# Altium footprint library NPTC061KFXC-RC.PcbLib: 1 footprints
Each footprint in its own frame and in the unit in brackets; x right, y up, seen from the top. Pads: shape width x height; smd on the part's side, far side on the other; paste and mask are expansions set on the pad; w line width, h text height; cw(c..) or ccw(c..) is an arc to the next point about the centre after c.
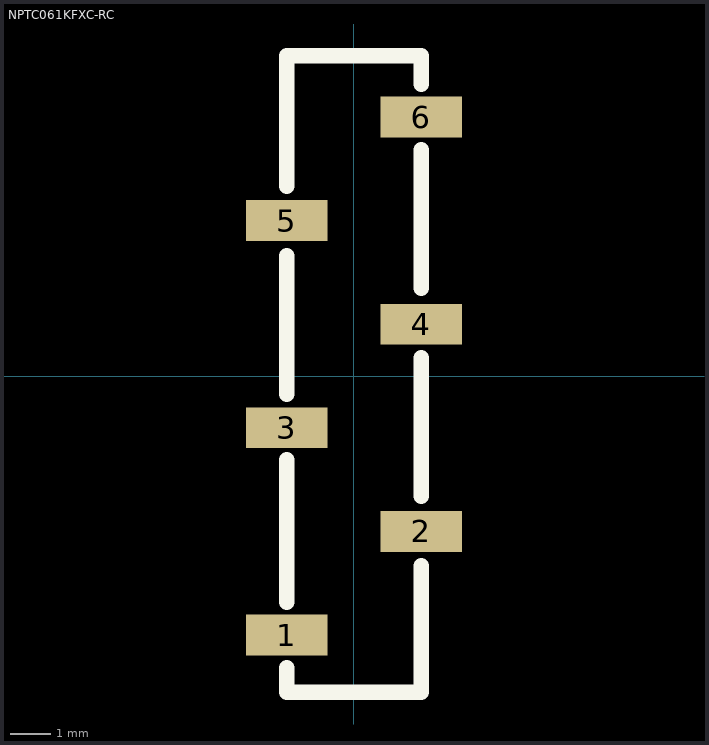
[diagram p0: the footprint, top view; thin cyan lines are the x and y axes]

## NPTC061KFXC-RC [mm]
pads (6):
  rect 2x1 smd: 1(-1.65,-6.35) 2(1.65,-3.81) 3(-1.65,-1.27) 4(1.65,1.27) 5(-1.65,3.81) 6(1.65,6.35)
Top Overlay:
  lines w0.381: -1.65,-7.15 -1.65,-7.75 1.65,-7.75 1.65,-4.65 ; -1.65,-5.55 -1.65,-2.05 ; -1.65,-0.45 -1.65,2.95 ; -1.65,4.65 -1.65,7.85 1.65,7.85 1.65,7.15 ; 1.65,-2.95 1.65,0.45 ; 1.65,2.15 1.65,5.55
3D body "NPTC061KFXC-RC.STEP": height 7.51, standoff 0.01, extent -2.15,-7.57 2.15,7.67